# Altium footprint library CPG02SMTB.PcbLib: 1 footprints
Each footprint in its own frame and in the unit in brackets; x right, y up, seen from the top. Pads: shape width x height; smd on the part's side, far side on the other; paste and mask are expansions set on the pad; w line width, h text height; cw(c..) or ccw(c..) is an arc to the next point about the centre after c.
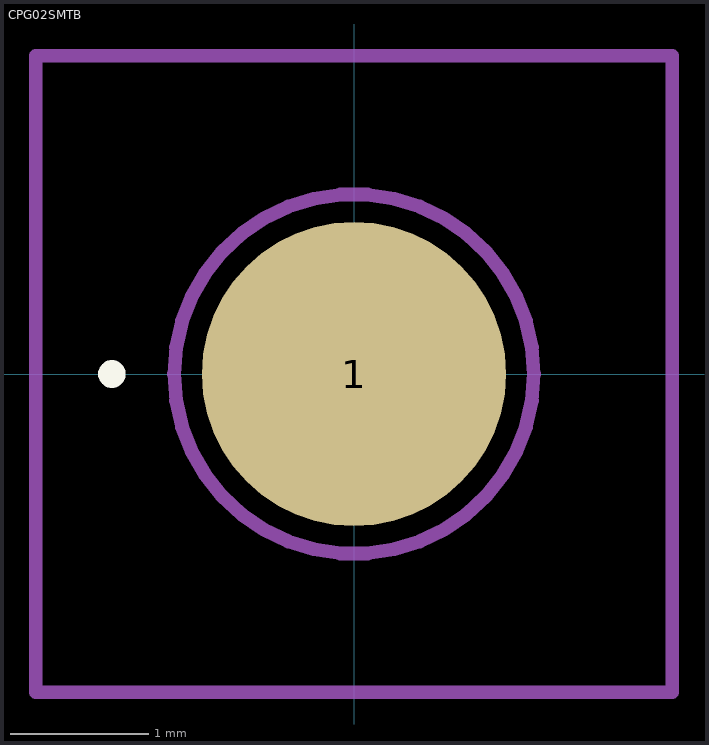
[diagram p0: the footprint, top view; thin cyan lines are the x and y axes]

## CPG02SMTB [mm]
pads (1):
  round 2.2 smd: 1(0,0)
Top Overlay:
  lines w0.1: -1.8,0 -1.8,0 ; -1.8,0 ccw(c-1.75,0) -1.7,0 ; -1.8,0 cw(c-1.75,0) -1.7,0 ; -1.7,0 -1.7,0
Mechanical 15:
  lines w0.1: -1.3,0 -1.3,0 ; -1.3,0 ccw(c0,0) 1.3,0 ; -1.3,0 cw(c0,0) 1.3,0 ; 1.3,0 1.3,0
Mechanical 20:
  lines w0.1: -2.3,-2.3 2.3,-2.3 2.3,2.3 -2.3,2.3 -2.3,-2.3